# Altium footprint library CDRH127.PcbLib: 2 footprints
Each footprint in its own frame and in the unit in brackets; x right, y up, seen from the top. Pads: shape width x height; smd on the part's side, far side on the other; paste and mask are expansions set on the pad; w line width, h text height; cw(c..) or ccw(c..) is an arc to the next point about the centre after c.
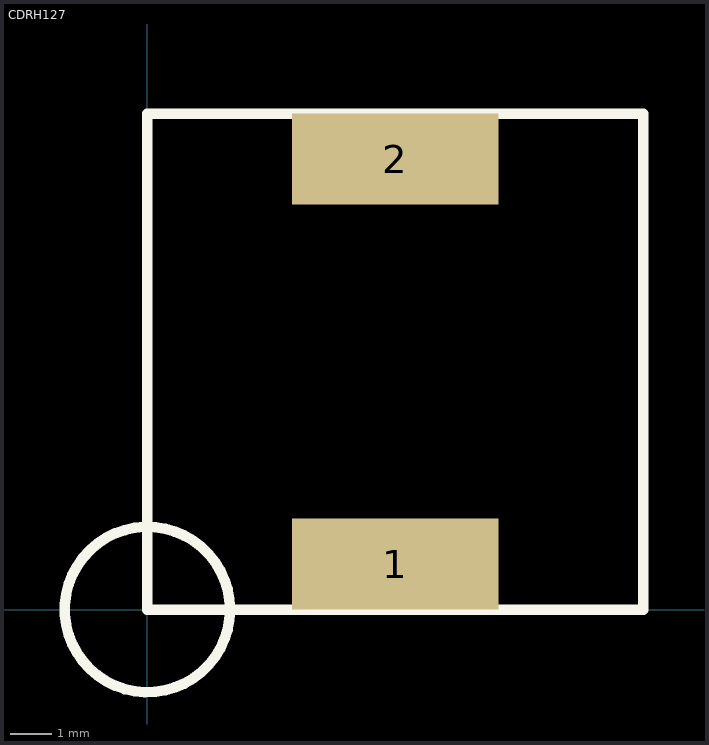
[diagram p0: the footprints below, top view; thin cyan lines are the x and y axes]

## CDRH127 [mm] "12x12x8"
height 8
pads (2):
  rect 5x2.2 smd: 1(6,1.1) 2(6,10.9)
Top Overlay:
  circle w0.254: c0,0 r2
  lines w0.254: 0,0 0,12 12,12 12,0 0,0

## PCBComponent_1 - duplicate [mm]